# EAGLE library part 74*2G04 (library 74x)
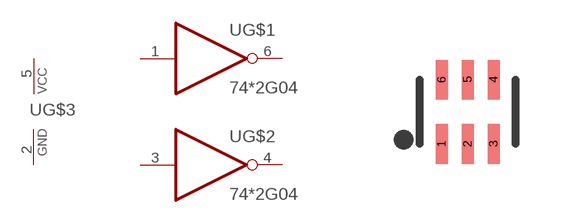
[diagram p0: symbol with the pads of SOT363; footprint SOT363]

Designator prefix -; gates G$1=7404 G$2=7404 G$3=PWRN

## 742G04  [SOT363]
1  G$1:I  in
2  G$3:GND  pwr
3  G$2:I  in
4  G$2:O  out
5  G$3:VCC  pwr
6  G$1:O  out

## Footprint SOT363 (pad centres in mm)
smd 0.3 x 0.99: 1 -0.65,-0.8; 2 0,-0.8; 3 0.65,-0.8; 4 0.65,0.81; 5 0,0.81; 6 -0.65,0.81